# Altium integrated library Ferrite Beads and Chips.IntLib: 2 symbols
Pins are listed as number, name and electrical type; pins without a type are passive.

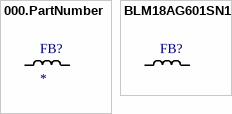
[diagram p0: symbols 000.PartNumber to BLM18AG601SN1D]

## 000.PartNumber
designator FB?
Digikey Description; Manufacturer: *; Series: *; Package: *; Filter Type: *; Current Rating (Max): *; DC Resistance (DCR) (Max): *; Ratings: *; Operating Temperature: *; Package / Case: *; Mounting Type: *; Height (Max): *; Size / Dimension: *; Number of Lines: *; Impedance @ Frequency: *; Base Product Number: *; Ozdisan Link: *; Digikey Link: *; Farnell TR Link: *; Mouser Link: *
pins: 1, 2

## BLM18AG601SN1D
designator FB?  (value not drawn)
FERRITE BEAD 600 OHM 0603 1LN; Manufacturer: Murata Electronics; Current Rating (Max): 500mA; DC Resistance (DCR) (Max): 380mOhm; Number of Lines: 1; Impedance @ Frequency: 600 Ohms @ 100MHz; Base Product Number: BLM18AG; Series: EMIFIL®, BLM18; Package: Tape & Reel (TR); Filter Type: -; Ratings: -; Operating Temperature: -55°C ~ 125°C; Package / Case: 0603 (1608 Metric); Mounting Type: Surface Mount; Height (Max): 0.037"" (0.95mm); Size / Dimension: 0.063"" L x 0.032"" W (1.60mm x 0.80mm); Ozdisan Link: https://ozdisan.com/pasif-komponentler/induktorler/bead-feritler/BLM18AG601SN1D; Digikey Link: https://www.digikey.com/en/products/detail/murata-electronics/BLM18AG601SN1D/584225?s=N4IgTCBcDaIEIBkCyBGAHAQQOIDYAMKAygHIoAiIAugL5A; Farnell TR Link: https://tr.farnell.com/murata/blm18ag601sn1d/ferrite-bead-0603-0-38ohm-0-5a/dp/1515679?st=blm18ag601sn1d; Mouser Link: https://www.mouser.com.tr/ProductDetail/Murata-Electronics/BLM18AG601SN1D?qs=%2Fha2pyFadugaXrdTm9z6ujoHK9ziqVaZDl9lDPSbK0ptDeQWgq1exg%3D%3D
footprint MURATA_FB-0603
pins: 1, 2